# Altium footprint library PcbLib1.PcbLib: 4 footprints
Each footprint in its own frame and in the unit in brackets; x right, y up, seen from the top. Pads: shape width x height; smd on the part's side, far side on the other; paste and mask are expansions set on the pad; w line width, h text height; cw(c..) or ccw(c..) is an arc to the next point about the centre after c.
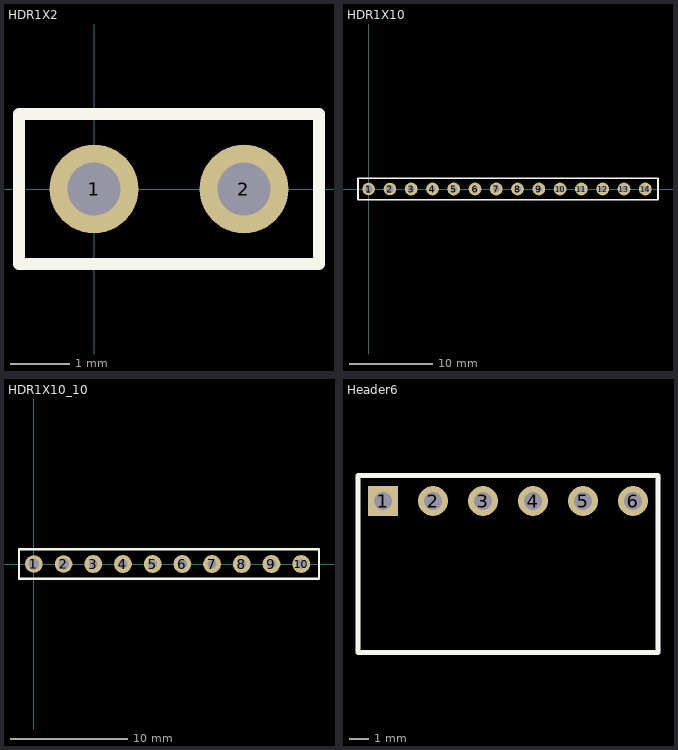
[diagram p0: the footprints below, top view; thin cyan lines are the x and y axes]

## HDR1X2 [mm]
pads (2):
  round 1.5 hole 0.9: 1(0,0) 2(2.54,0)
Top Overlay:
  lines w0.2: -1.27,-1.27 3.81,-1.27 3.81,1.27 -1.27,1.27 -1.27,-1.27

## HDR1X10 [mil]
pads (14):
  round 59.06 hole 35.43: 1(0,0) 2(100,0)
  round 60 hole 30: 3(200,0) 4(300,0) 5(400,0) 6(500,0) 7(600,0) 8(700,0) 9(800,0) 10(900,0) 11(1000,0) 12(1100,0) 13(1200,0) 14(1300,0)
Top Overlay:
  lines w7.87: -50,-50 1360,-50 1360,50 -50,50 -50,-50

## HDR1X10_10 [mil]
pads (10):
  round 59.06 hole 35.43: 1(0,0) 2(100,0)
  round 60 hole 30: 3(200,0) 4(300,0) 5(400,0) 6(500,0) 7(600,0) 8(700,0) 9(800,0) 10(900,0)
Top Overlay:
  lines w7.87: -50,-50 -50,50 960,50 960,-50 -50,-50

## Header6 [mil]
pads (6):
  rect 60x60 hole 36: 1(390,-951.85)
  round 60 hole 36: 2(490,-951.85) 3(590,-951.85) 4(690,-951.85) 5(790,-951.85) 6(890,-951.85)
Top Overlay:
  lines w10: 340,-1255 940,-1255 940,-900.67 340,-900.67 340,-1255